# Altium footprint library Resistors_TH.PcbLib: 20 footprints (part 1 of 2)
Each footprint in its own frame and in the unit in brackets; x right, y up, seen from the top. Pads: shape width x height; smd on the part's side, far side on the other; paste and mask are expansions set on the pad; w line width, h text height; cw(c..) or ccw(c..) is an arc to the next point about the centre after c.
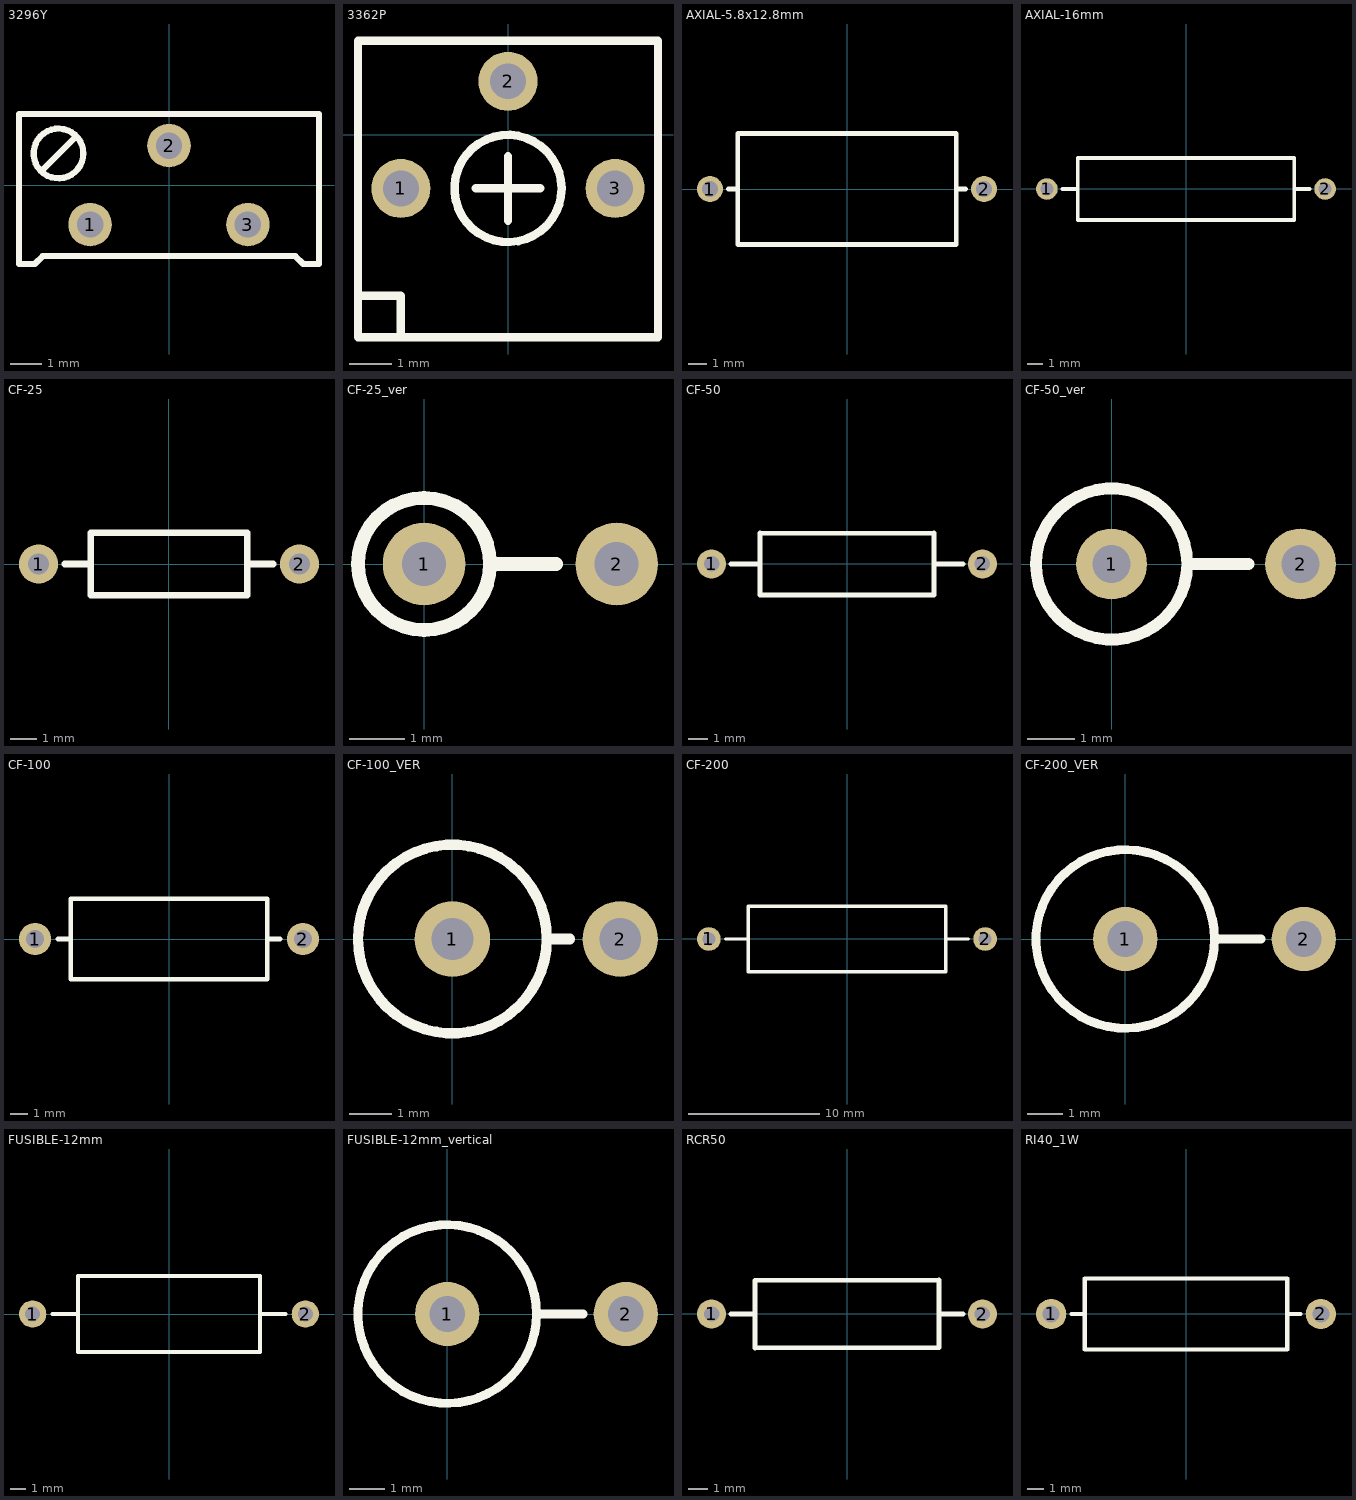
[diagram p0: the footprints below, top view; thin cyan lines are the x and y axes]

## 3296Y [mm] "BOURNS Square Trimpot® Trimming Potentiometer, Thru-Hole; 3 Leads."
height 11
pads (3):
  round 1.4 hole 0.85: 1(-2.54,-1.27) 2(0,1.27) 3(2.54,-1.27)
Top Overlay:
  circle w0.2: c-3.556,1.016 r0.8
  lines w0.2: -4.089,0.457 -2.997,1.549 ; -4.826,-2.54 -4.318,-2.54 -4.064,-2.286 4.064,-2.286 4.318,-2.54 4.826,-2.54 4.826,2.286 -4.826,2.286 -4.826,-2.54
3D body "Bourns 3296Y.STEP": height 11.65, standoff -2, extent -4.78,-2.445 4.75,2.355

## 3362P [mm] "BOURNS Square Trimpot® Trimming Potentiometer, Thru-Hole; 3 Leads."
height 4.7
pads (3):
  round 1.4 hole 0.85: 1(-2.54,-1.27) 2(0,1.27) 3(2.54,-1.27)
Top Overlay:
  circle w0.2: c0,-1.27 r1.27
  lines w0.2: -3.556,-3.81 -2.54,-3.81 -2.54,-4.801 ; -0.762,-1.27 0.762,-1.27 ; 0,-2.032 0,-0.508 ; -3.556,-4.801 -3.556,2.235 3.556,2.235 3.556,-4.801 -3.556,-4.801
3D body "Bourns 3362P.STEP": height 4.7, standoff -5.47, extent -3.3,-5.024 3.3,2.03

## AXIAL-5.8x12.8mm [mm] "Axial Device, Thru-Hole; 2 Leads; 18mm Pin Spacing"
height 4
pads (2):
  round 1.4 hole 0.85: 1(-7.4,0) 2(7.4,0)
Top Overlay:
  lines w0.254: -6.4,0 -5.9,0 ; 5.9,0 6.4,0 ; -5.9,-3 5.9,-3 5.9,3 -5.9,3 -5.9,-3

## AXIAL-16mm [mm] "Axial Device, Thru-Hole; 2 Leads; 18mm Pin Spacing"
height 4
pads (2):
  round 1.4 hole 0.85: 1(-9,0) 2(9,0)
Top Overlay:
  lines w0.254: -8,0 -7,0 ; 7,0 8,0 ; -7,-2 7,-2 7,2 -7,2 -7,-2

## CF-25 [mm] "Resistor"
height 2.5
pads (2):
  round 1.5 hole 0.8: 1(-5,0) 2(5,0)
Top Overlay:
  lines w0.25: -4,0 -3,0 ; 3,0 4,0 ; -3,-1.2 -3,1.2 3,1.2 3,-1.2 -3,-1.2
3D body "CF-25.STEP": height 1.5, standoff -2.5, extent 0.1,-0.3 5.3,0.3
3D body "CF-25.STEP": height 1.5, standoff -2.5, extent -5.3,-0.3 -0.1,0.3
3D body: height 2.35, standoff 0.05, extent -3,-1.147 -0.7,1.147
3D body: height 2.2, standoff 0.2, extent -1.85,-0.996 1.85,0.996
3D body: height 2.35, standoff 0.05, extent 0.7,-1.147 3,1.147

## CF-25_ver [mm] "Resistor"
height 2.5
pads (2):
  round 1.5 hole 0.8: 1(0,0) 2(3.5,0)
Top Overlay:
  circle w0.25: c0,0 r1.2
  lines w0.25: 1.2,0 2.4,0
3D body: height 3.35, standoff 1.05, extent -1.15,-1.147 1.15,1.147
3D body: height 5.4, standoff 1.7, extent -0.998,-0.996 0.998,0.996
3D body: height 6.05, standoff 3.75, extent -1.15,-1.147 1.15,1.147

## CF-50 [mm] "Resistor"
height 3.2
pads (2):
  round 1.5 hole 0.8: 1(-7,0) 2(7,0)
Top Overlay:
  lines w0.25: -6,0 -4.5,0 ; -4.5,-1.608 -4.5,1.592 ; -4.5,-1.6 4.5,-1.6 4.5,1.6 ; -4.5,1.589 4.5,1.602 ; 4.5,0 6,0
3D body "CF-25.STEP": height 2, standoff -2, extent 2.1,-0.3 7.3,0.3
3D body "CF-25.STEP": height 2, standoff -2, extent -7.3,-0.3 -2.1,0.3
3D body: height 3, standoff 0.4, extent -2.9,-1.29 2.9,1.3
3D body: height 3.3, standoff 0.1, extent 1.312,-1.597 4.5,1.597
3D body: height 3.3, standoff 0.1, extent -4.5,-1.597 -1.312,1.597

## CF-50_ver [mm] "Resistor"
height 3.2
pads (2):
  round 1.5 hole 0.8: 1(0,0) 2(4,0)
Top Overlay:
  circle w0.25: c0,0 r1.6
  lines w0.25: 1.6,0 2.9,0
3D body: height 8.8, standoff 3, extent -1.297,-1.29 1.297,1.3
3D body: height 10, standoff 6.8, extent -1.594,-1.597 1.594,1.597
3D body: height 4.2, standoff 1, extent -1.59,-1.6 1.599,1.594

## CF-100 [mm] "Resistor, 1W"
height 5
pads (2):
  round 1.8 hole 1: 1(-7.5,0) 2(7.5,0)
Top Overlay:
  lines w0.254: -6.223,0 -5.495,0 ; 5.49,0 6.218,0 ; -5.5,-2.25 5.5,-2.25 5.5,2.25 -5.5,2.25 -5.5,-2.25
3D body "Fusible_12mm.STEP": height 2.9, standoff -3, extent -0.526,-0.4 7.874,0.4
3D body "Fusible_12mm.STEP": height 2.9, standoff -3, extent -7.874,-0.4 0.526,0.4
3D body: height 4.75, standoff 0.25, extent 1.005,-2.247 5.495,2.247
3D body: height 4.75, standoff 0.25, extent -5.495,-2.247 -1.005,2.247
3D body: height 4.5, standoff 0.5, extent -3,-2 3,2

## CF-100_VER [mm]
height 14
pads (2):
  round 1.8 hole 1: 1(0,0) 2(4,0)
Top Overlay:
  circle w0.25: c0,0 r2.25
  lines w0.254: 2.25,0.002 2.794,0.001

## CF-200 [mm] "Resistor, 2W"
height 5.5
pads (2):
  round 1.8 hole 1: 1(-10.5,0) 2(10.5,0)
Top Overlay:
  lines w0.254: -9.211,0 -7.511,0 ; 7.511,0 9.211,0 ; -7.5,-2.5 -7.5,2.5 7.5,2.5 7.5,-2.5 -7.5,-2.5
3D body "Fusible_12mm.STEP": height 3.4, standoff -2.5, extent 2.52,-0.4 10.92,0.4
3D body "Fusible_12mm.STEP": height 3.4, standoff -2.5, extent -10.92,-0.4 -2.52,0.4
3D body: height 5.5, standoff 0.5, extent 2.506,-2.497 7.494,2.497
3D body: height 5.5, standoff 0.5, extent -7.494,-2.497 -2.506,2.497
3D body: height 5, standoff 1, extent -5,-2 5,2

## CF-200_VER [mm]
height 18
pads (2):
  round 1.8 hole 1: 1(0,0) 2(5,0)
Top Overlay:
  circle w0.25: c0,0 r2.5
  lines w0.254: 2.5,0.002 3.8,0.001

## FUSIBLE-12mm [mm]
pads (2):
  round 1.8 hole 1: 1(-9,0) 2(9,0)
Top Overlay:
  lines w0.254: -7.7,0 -6,0 ; 6,0 7.7,0 ; -6,-2.5 6,-2.5 6,2.5 -6,2.5 -6,-2.5
3D body: height 5, standoff 1, extent -3,-2 3,2
3D body: height 5.5, standoff 0.5, extent -5.989,-2.497 -1,2.497
3D body: height 5.5, standoff 0.5, extent 1,-2.497 5.989,2.497
3D body "Fusible_12mm.STEP": height 3.4, standoff -2.5, extent -9.4,-0.4 -1,0.4
3D body "Fusible_12mm.STEP": height 3.4, standoff -2.5, extent 1,-0.4 9.4,0.4

## FUSIBLE-12mm_vertical [mm]
height 15
pads (2):
  round 1.8 hole 1: 1(0,0) 2(5,0)
Top Overlay:
  circle w0.25: c0,0 r2.5
  lines w0.254: 2.5,0.002 3.8,0.001
3D body: height 3, standoff -2.5, extent 4.603,-0.399 5.4,0.399
3D body "Fusible_12mm_ver.stp": height 15.9, standoff -2.5, extent -2.5,-2.5 5.4,2.5

## RCR50 [mm] "Resistor"
height 3.6
pads (2):
  round 1.5 hole 0.8: 1(-7,0) 2(7,0)
Top Overlay:
  lines w0.25: -6,0 -4.75,0 ; 4.75,0 6,0 ; -4.75,-1.757 4.75,-1.743 4.75,1.757 -4.75,1.743 -4.75,-1.757
3D body: height 3.1, standoff 0.3, extent -2.9,-1.389 2.9,1.4
3D body "CF-25.STEP": height 2, standoff -2, extent -7.3,-0.3 -2.1,0.3
3D body "CF-25.STEP": height 2, standoff -2, extent 2.1,-0.3 7.3,0.3
3D body: height 3.55, standoff 0.05, extent 1.25,-1.743 4.75,1.752
3D body: height 3.55, standoff 0.05, extent -4.75,-1.757 -1.25,1.738

## RI40_1W [mm] "Resistor, 1W, 1500V"
height 4.3
pads (2):
  round 1.8 hole 1: 1(-8,0) 2(8,0)
Top Overlay:
  lines w0.254: -6.8,0 -6,0 ; 5.995,0 6.8,0 ; -6,-2.1 -6,2.1 6,2.1 6,-2.1 -6,-2.1
3D body: height 4.3, standoff 0.1, extent -6,-2.1 -1.812,2.094
3D body: height 4.3, standoff 0.1, extent 1.811,-2 6,2.194
3D body: height 4, standoff 0.4, extent -4,-1.8 4,1.8
3D body "Fusible_12mm.STEP": height 2.6, standoff -3.3, extent -8.4,-0.4 0,0.4
3D body "Fusible_12mm.STEP": height 2.6, standoff -3.3, extent 0,-0.4 8.4,0.4